# Altium schematic symbol library SCH - POWER - LINEAR VREG - ST LD1086 FIXED DPAK.SchLib: 1 symbol
Pins are listed as number, name and electrical type; pins without a type are passive.

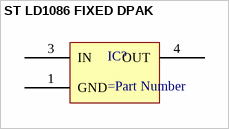
[diagram p0: symbol ST LD1086 FIXED DPAK]

## ST LD1086 FIXED DPAK
designator IC?
pins: 1 GND, 3 IN, 4 OUT